# EAGLE library part AS-ITM-00332 (library tinycircuits)
MOD BLE 4.2 NORDIC NRF52832 SOC
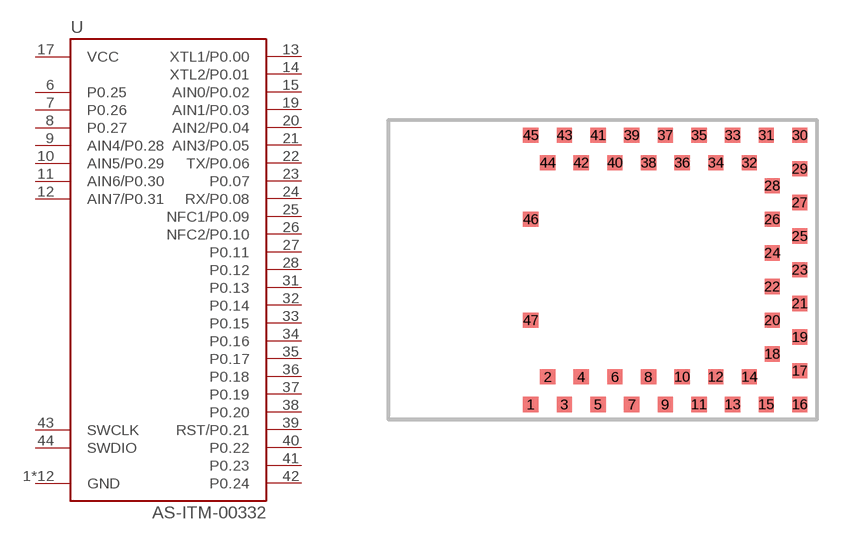
[diagram p129: symbol with the pads of BMD-300; footprint BMD-300]

Designator prefix U

## AS-ITM-00332 (PARTNO: AS-ITM-00332; VALUE: BMD-300)  [BMD-300]
1  GND
2  GND
3  GND
4  GND
5  GND
6  P0.25
7  P0.26
8  P0.27
9  AIN4/P0.28
10  AIN5/P0.29
11  AIN6/P0.30
12  AIN7/P0.31
13  XTL1/P0.00
14  XTL2/P0.01
15  AIN0/P0.02
16  GND
17  VCC
18  GND
19  AIN1/P0.03
20  AIN2/P0.04
21  AIN3/P0.05
22  TX/P0.06
23  P0.07
24  RX/P0.08
25  NFC1/P0.09
26  NFC2/P0.10
27  P0.11
28  P0.12
29  GND
30  GND
31  P0.13
32  P0.14
33  P0.15
34  P0.16
35  P0.17
36  P0.18
37  P0.19
38  P0.20
39  RST/P0.21
40  P0.22
41  P0.23
42  P0.24
43  SWCLK
44  SWDIO
45  GND
46  GND
47  GND

## Footprint BMD-300 (pad centres in mm)
smd 0.5 x 0.5: 1 -2.35,-4.4; 2 -1.8,-3.5; 3 -1.25,-4.4; 4 -0.7,-3.5; 5 -0.15,-4.4; 6 0.4,-3.5; 7 0.95,-4.4; 8 1.5,-3.5; 9 2.05,-4.4; 10 2.6,-3.5; 11 3.15,-4.4; 12 3.7,-3.5; 13 4.25,-4.4; 14 4.8,-3.5; 15 5.35,-4.4; 16 6.45,-4.4; 17 6.45,-3.3; 18 5.55,-2.75; 19 6.45,-2.2; 20 5.55,-1.65; 21 6.45,-1.1; 22 5.55,-0.55; 23 6.45,0; 24 5.55,0.55; 25 6.45,1.1; 26 5.55,1.65; 27 6.45,2.2; 28 5.55,2.75; 29 6.45,3.3; 30 6.45,4.4; 31 5.35,4.4; 32 4.8,3.5; 33 4.25,4.4; 34 3.7,3.5; 35 3.15,4.4; 36 2.6,3.5; 37 2.05,4.4; 38 1.5,3.5; 39 0.95,4.4; 40 0.4,3.5; 41 -0.15,4.4; 42 -0.7,3.5; 43 -1.25,4.4; 44 -1.8,3.5; 45 -2.35,4.4; 46 -2.35,1.65; 47 -2.35,-1.65